# EAGLE library part DA16200-00000F22 (library DA16200-00000F22)
RF System on a Chip - SoC Wi-Fi SoC Source: Datasheet <https://www.mouser.com/datasheet/2/713/dial_s_a0011079475_1-2291401.pdf>
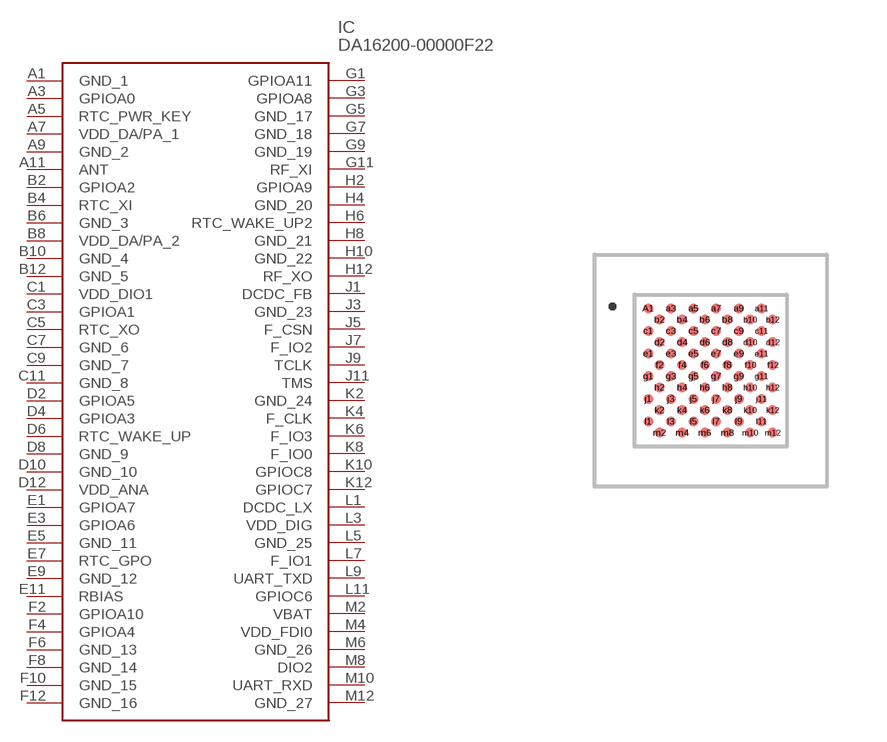
[diagram p0: symbol with the pads of DA1620000000F22; footprint DA1620000000F22]

Designator prefix IC

## DA16200-00000F22 (Description: RF System on a Chip - SoC Wi-Fi SoC; Height: 0.68mm; Manufacturer_Name: Dialog Semiconductor; Manufacturer_Part_Number: DA16200-00000F22; Mouser_Part_Number: 724-DA16200-00000F22; Mouser_Price-Stock: https://www.mouser.co.uk/ProductDetail/Dialog-Semiconductor/DA16200-00000F22?qs=TiOZkKH1s2SEwlj2oCpvfg%3D%3D)  [DA1620000000F22]
A1  GND_1
A3  GPIOA0
A5  RTC_PWR_KEY
A7  VDD_DA/PA_1
A9  GND_2
A11  ANT
B2  GPIOA2
B4  RTC_XI
B6  GND_3
B8  VDD_DA/PA_2
B10  GND_4
B12  GND_5
C1  VDD_DIO1
C3  GPIOA1
C5  RTC_XO
C7  GND_6
C9  GND_7
C11  GND_8
D2  GPIOA5
D4  GPIOA3
D6  RTC_WAKE_UP
D8  GND_9
D10  GND_10
D12  VDD_ANA
E1  GPIOA7
E3  GPIOA6
E5  GND_11
E7  RTC_GPO
E9  GND_12
E11  RBIAS
F2  GPIOA10
F4  GPIOA4
F6  GND_13
F8  GND_14
F10  GND_15
F12  GND_16
G1  GPIOA11
G3  GPIOA8
G5  GND_17
G7  GND_18
G9  GND_19
G11  RF_XI
H2  GPIOA9
H4  GND_20
H6  RTC_WAKE_UP2
H8  GND_21
H10  GND_22
H12  RF_XO
J1  DCDC_FB
J3  GND_23
J5  F_CSN
J7  F_IO2
J9  TCLK
J11  TMS
K2  GND_24
K4  F_CLK
K6  F_IO3
K8  F_IO0
K10  GPIOC8
K12  GPIOC7
L1  DCDC_LX
L3  VDD_DIG
L5  GND_25
L7  F_IO1
L9  UART_TXD
L11  GPIOC6
M2  VBAT
M4  VDD_FDI0
M6  GND_26
M8  DIO2
M10  UART_RXD
M12  GND_27

## Footprint DA1620000000F22 (pad centres in mm)
DA16200-00000F22-4
smd 0.25 x 0.25: A1 -1.555,1.555; a3 -0.99,1.555; a5 -0.424,1.555; a7 0.141,1.555; a9 0.707,1.555; a11 1.272,1.555; b2 -1.272,1.272; b4 -0.707,1.272; b6 -0.141,1.272; b8 0.424,1.272; b10 0.99,1.272; b12 1.555,1.272; c1 -1.555,0.99; c3 -0.99,0.99; c5 -0.424,0.99; c7 0.141,0.99; c9 0.707,0.99; c11 1.272,0.99; d2 -1.272,0.707; d4 -0.707,0.707; d6 -0.141,0.707; d8 0.424,0.707; d10 0.99,0.707; d12 1.555,0.707; e1 -1.555,0.424; e3 -0.99,0.424; e5 -0.424,0.424; e7 0.141,0.424; e9 0.707,0.424; e11 1.272,0.424; f2 -1.272,0.141; f4 -0.707,0.141; f6 -0.141,0.141; f8 0.424,0.141; f10 0.99,0.141; f12 1.555,0.141; g1 -1.555,-0.141; g3 -0.99,-0.141; g5 -0.424,-0.141; g7 0.141,-0.141; g9 0.707,-0.141; g11 1.272,-0.141; h2 -1.272,-0.424; h4 -0.707,-0.424; h6 -0.141,-0.424; h8 0.424,-0.424; h10 0.99,-0.424; h12 1.555,-0.424; j1 -1.555,-0.707; j3 -0.99,-0.707; j5 -0.424,-0.707; j7 0.141,-0.707; j9 0.707,-0.707; j11 1.272,-0.707; k2 -1.272,-0.99; k4 -0.707,-0.99; k6 -0.141,-0.99; k8 0.424,-0.99; k10 0.99,-0.99; k12 1.555,-0.99; l1 -1.555,-1.272; l3 -0.99,-1.272; l5 -0.424,-1.272; l7 0.141,-1.272; l9 0.707,-1.272; l11 1.272,-1.272; m2 -1.272,-1.555; m4 -0.707,-1.555; m6 -0.141,-1.555; m8 0.424,-1.555; m10 0.99,-1.555; m12 1.555,-1.555